# Altium footprint library UPG2214TB-SOP6.PcbLib: 2 footprints
Each footprint in its own frame and in the unit in brackets; x right, y up, seen from the top. Pads: shape width x height; smd on the part's side, far side on the other; paste and mask are expansions set on the pad; w line width, h text height; cw(c..) or ccw(c..) is an arc to the next point about the centre after c.
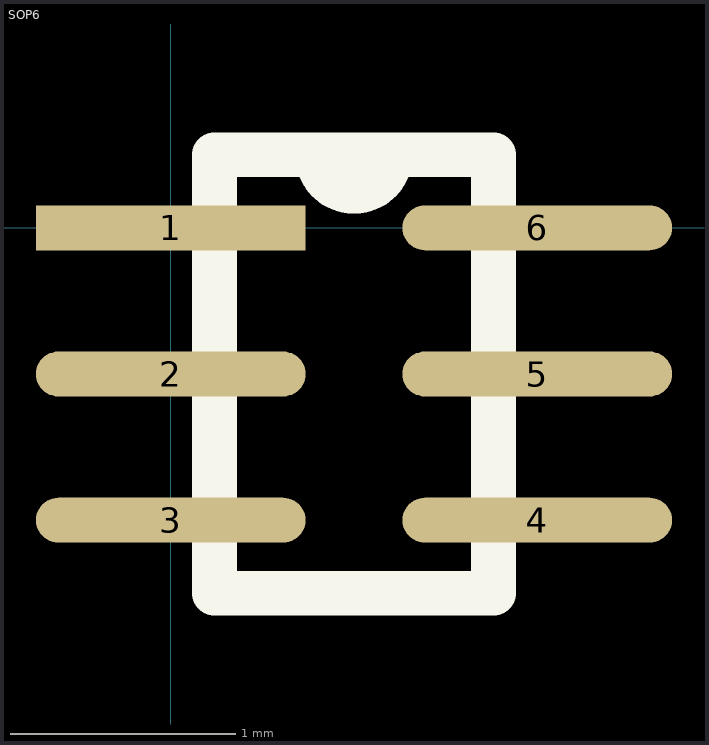
[diagram p0: the footprints below, top view; thin cyan lines are the x and y axes]

## PCBComponent_1 [mm]

## SOP6 [mm]
pads (6):
  rect 1.2x0.2 smd: 1(0,0)
  oval 1.2x0.2 smd: 2(0,-0.65) 3(0,-1.3) 4(1.63,-1.3) 5(1.63,-0.65) 6(1.63,0)
Top Overlay:
  lines w0.2: 0.195,-1.625 1.435,-1.625 1.435,0.325 0.653,0.325 ccw(c0.815,0.325) 0.977,0.325 0.195,0.325 0.195,-1.625